# Altium integrated library Battery&Holders.IntLib: 16 symbols
Pins are listed as number, name and electrical type; pins without a type are passive.

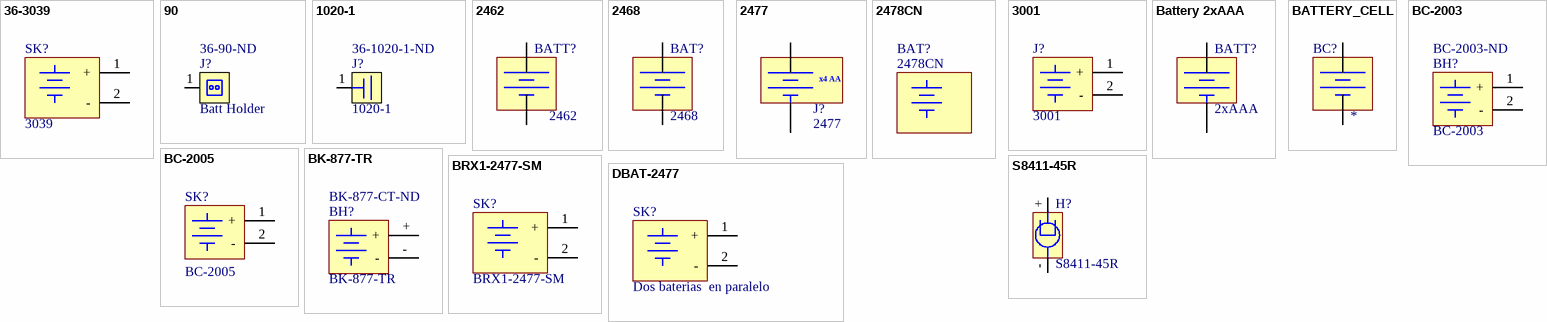
[diagram p0: symbols 36-3039 to S8411-45R]

## 36-3039
designator SK?, comment 3039
BATTERY HOLDER THRU HOLE 2477; Manufacturer: Keystone Electronics; Battery Type, Function: Coin Cell, Retainer; Style: Retainer; Battery Cell Size: Coin, 24.5mm; Number of Cells: 1; Battery Series: 2477; Supplier 1: Digi-Key; Manufacturer Part Number: 3039; RoHS: RoHS Compliant; Category: Battery Products; Stock 1: 26295; Pricing 1: 1=0.69, 10=0.648, 50=0.5184, 100=0.4968, 250=0.4536, 500=0.432, 1000=0.3629, 2500=0.324, 5000=0.3132 (USD); Part Status: Active; Mounting Type: PCB, Through Hole; Termination Style: PC Pin; Height Above Board: 0.336" (8.53mm); Operating Temperature: -; ComponentLink1URL: http://www.keyelco.com/product-pdf.cfm?p=800; ComponentLink1Description: http://www.keyelco.com/product-pdf.cfm?p=800; Value: 3039; Supplier Part Number 1: 36-3039-ND
footprint 36-3039 (BATTERY HOLDER THRU HOLE 2477)
pins: 1 +, 2 -

## 90
designator J?, comment Batt Holder  Supplier Part Number 1: 36-90-ND
Adhesive, Contact, Aerosol, Volume 24 Oz. (710mL), Non-Flammable, Temp +18degc; Manufacturer: Keystone Electronics; Manufacturer Part Number: 90; Supplier 1: Digi-Key; RoHS: Yes; Category: Batteries and Accessories; Stock 1: 3903; Pricing 1: 1=0,51000, 25=0,43320, 100=0,35840, 250=0,33024, 500=0,31032, 1000=0,29040, 2500=0,26385, 5000=0,24560 (USD); Material: Aluminium; Packaging: Bulk; Length: 11.1mm; RoHS Compliant: Yes; Lead Free: Lead Free
footprint KEYSTONE-90 (BATT HOLDER CLIP AAA 1 CELL)
pins: 1

## 1020-1
designator J?  Supplier Part Number 1: 36-1020-1-ND
Contact; Battery; Positive/Negative; Gold Plated Stainless Steel; AAAA A23 A27 AAA N; Manufacturer: Keystone Electronics; Number of Cells: 1; Supplier 1: Digi-Key; Manufacturer Part Number: 1020-1; RoHS: Yes; Stock 1: 21748; Pricing 1: 1=0,51000, 25=0,43080, 100=0,35650, 250=0,32840, 500=0,30862, 1000=0,28881, 2500=0,26240, 5000=0,24425 (USD); Mount: Surface Mount,PCB; Contact Plating: Gold; Color: Gold; Material: Stainless Steel; Min Operating Temperature: -50°C; Max Operating Temperature: 145°C; Termination: SMD/SMT; Package Quantity: 100; Packaging: Bulk; Length: 6.35mm; Width: 6.35mm; Height: 11.02mm; ComponentLink1URL: http://www.mouser.com/ds/2/215/020-1-741369.pdf?src-supplier=Mouser; ComponentLink1Description: http://www.mouser.com/ds/2/215/020-1-741369.pdf?src-supplier=Mouser; ComponentLink2URL: http://www.keyelco.com/product-pdf.cfm?p=14032&src-supplier=Digi-Key; ComponentLink2Description: http://www.keyelco.com/product-pdf.cfm?p=14032&src-supplier=Digi-Key
footprint KEYSTONE-1020-1 (BATT CONT SPRING MULT 1 CELL SMD)
pins: 1

## 2462
designator BATT?
HOLDER BATTERY 2CELL AA PC MNT; Manufacturer: Keystone Electronics; Battery Type, Function: Cylindrical, Holder; Style: Holder (Open); Number of Cells: 2; Supplier 1: Digi-Key; Manufacturer Part Number: 2462; RoHS: RoHS Compliant; Category: Battery Products; Stock 1: 8125; Pricing 1: 1=1.51, 10=0.968, 50=0.8728, 100=0.8349, 250=0.759, 1000=0.6375, 2500=0.5695, 5000=0.5345 (USD); Part Status: Active; Battery Cell Size: AA; Battery Series: -; Mounting Type: PCB, Through Hole; Termination Style: PC Pin; Height Above Board: 0.630" (16.00mm); Operating Temperature: -; ComponentLink1URL: http://www.keyelco.com/product-pdf.cfm?p=1027; ComponentLink1Description: http://www.keyelco.com/product-pdf.cfm?p=1027; Value: 2462; Supplier Part Number 1: 36-2462-ND
footprint 2462 (2 AA Cell Holder, PC P/N 2462)
pins: +, -

## 2468
designator BAT?
HOLDER BATTERY 2CELL AAA PC MNT; Manufacturer: Keystone Electronics; Battery Type, Function: Cylindrical, Holder; Style: Holder (Open); Number of Cells: 2; Supplier 1: Digi-Key; Manufacturer Part Number: 2468; RoHS: RoHS Compliant; Category: Battery Products; Stock 1: 23458; Pricing 1: 1=1.51, 10=0.968, 50=0.8728, 100=0.8349, 250=0.759, 1000=0.6375, 2500=0.5695, 5000=0.5345 (USD); Part Status: Active; Battery Cell Size: AAA; Battery Series: -; Mounting Type: PCB, Through Hole; Termination Style: PC Pin; Height Above Board: 0.512" (13.00mm); Operating Temperature: -; ComponentLink1URL: http://www.keyelco.com/product-pdf.cfm?p=1033; ComponentLink1Description: http://www.keyelco.com/product-pdf.cfm?p=1033; Value: 2468; Supplier Part Number 1: 36-2468-ND
footprint 2468 (HOLDER BATTERY 2CELL AAA PC MNT)
pins: +, -

## 2477
designator J?
BATTERY HOLDER AA 4 CELL PC PIN; Manufacturer: Keystone Electronics; Description: DotStar RGB LED Disk - 240mm diameter; Body Material: Polypropylene; Number of Batteries: 4; Wire/Cable Gauge: 26AWG; Supplier: Digikey; Supplier Part Number: 36-2477-ND; Manufacturer Part Number: 2477; RoHS: Yes; Category: Batteries and Accessories; Stock: 1804; Pricing: 1=1,87, 500=1,58, 1000=1,06282, 2500=0,98695, 5000=0,93317 (USD); Mounting Technology: Through Hole,PCB; Material: Steel,Plastic; Contact Material: Brass; Contact Plating: Nickel; Series: -; Number of Cells: 4; Package Quantity: 1; Termination: PC Pin; Packaging: Bulk; Contact Type: Spring; Mounting Style: HORIZONTAL; Reach SVHC Compliant: No; Lead Free: Lead Free; ComponentLink1URL: https://datasheet.ciiva.com/4/2477-4010.pdf?src-supplier=Digikey; ComponentLink1Description: https://datasheet.ciiva.com/4/2477-4010.pdf?src-supplier=Digikey; ComponentLink2URL: https://datasheet.ciiva.com/1391/1668109-1391556.pdf?src-supplier=Element14; ComponentLink2Description: https://datasheet.ciiva.com/1391/1668109-1391556.pdf?src-supplier=Element14; ComponentLink3URL: https://datasheet.ciiva.com/16295/m60-2p26-16295294.pdf?src-supplier=Future+Electronics; ComponentLink3Description: https://datasheet.ciiva.com/16295/m60-2p26-16295294.pdf?src-supplier=Future+Electronics
footprint KEYSTONE_2477
pins: N -, P +
text: x4 AA

## 2478CN
designator BAT?
BATT HLDR AA 4 CELL LEADS W/CONN; Manufacturer: Keystone Electronics; Supplier 1: Digi-Key; Supplier Part Number 1: 36-2478CN-ND; Manufacturer Part Number: 2478CN; Stock 1: 969; Pricing 1: 1=1.88, 10=1.709, 50=1.5346, 100=1.4648, 250=1.3252, 500=1.2206, 1000=1.0463, 2500=0.9765, 5000=0.9277 (USD)
footprint 2478CN (BATT HLDR AA 4 CELL LEADS W/CONN)

## 3001
designator J?
Battery Holder: THM, 1 Coin Cell, 12mm, PhosBronze/Tin-Nickel | Keystone Electronics 3001; Number of Cells: 1; Supplier: Digikey; Supplier Part Number: 36-3001-ND; Manufacturer: Keystone Electronics; Manufacturer Part Number: 3001; RoHS: Yes; Category: Batteries and Accessories; Stock: 57189; Pricing: 1=0,47, 25=0,4116, 100=0,3267, 250=0,3034, 500=0,28686, 1000=0,27124, 2500=0,25187, 5000=0,23815 (USD); Mounting Technology: Through Hole,PCB; Contact Material: Bronze; Contact Plating: Tin; Material: Bronze; Series: -; Termination: PC Pin; Packaging: Bulk; Package Quantity: 100; Number of Batteries: 1; Diameter: 12mm; Height: 3mm; RoHS Compliant: Yes; Lead Free: Lead Free; Reach SVHC Compliant: No; ComponentLink1URL: https://datasheet.ciiva.com/3/3001-3954.pdf?src-supplier=Digikey; ComponentLink1Description: https://datasheet.ciiva.com/3/3001-3954.pdf?src-supplier=Digikey; ComponentLink2URL: https://datasheet.ciiva.com/1390/1718209-1390245.pdf?src-supplier=Element14; ComponentLink2Description: https://datasheet.ciiva.com/1390/1718209-1390245.pdf?src-supplier=Element14; ComponentLink3URL: https://datasheet.ciiva.com/11714/0900766b8002ef78-11714694.pdf?src-supplier=Rs; ComponentLink3Description: https://datasheet.ciiva.com/11714/0900766b8002ef78-11714694.pdf?src-supplier=Rs; ComponentLink4URL: https://datasheet.ciiva.com/16392/m60-2p7-16392633.pdf?src-supplier=Future+Electronics; ComponentLink4Description: https://datasheet.ciiva.com/16392/m60-2p7-16392633.pdf?src-supplier=Future+Electronics
footprint KEYSTONE_3001 (BATT RETAINER COIN 12MM PC PIN)
pins: 1 +, 2 -

## Battery 2xAAA
designator BATT?, comment 2xAAA
Value: 2xAAA
footprint 2xAAA
footprint 2xAAA - 2
footprint 1AAA
footprint AAA-keystone-1021
footprint AAA-keystone-1021 - X2
pins: 1 +, 3 -

## BATTERY_CELL
designator BC?
Battery Cell; Value: *
footprint BAT_CELL
pins: CELL+ +, CELL- -

## BC-2003
designator BH?  Supplier Part Number 1: BC-2003-ND
Battery Holder Coin 20MM SMD; Manufacturer: Memory Protection Devices; Number of Cells: 1; Supplier 1: Digi-Key; Manufacturer Part Number: BC-2003; RoHS: Yes; Category: Connectors; Stock 1: 23851; Pricing 1: 1=0,57000, 10=0,48400, 50=0,42460, 100=0,40050, 250=0,36900, 500=0,34676, 1000=0,32451, 2500=0,29484, 5000=0,27445 (USD); Mount: Surface Mount,PCB; Case/Package: SMD/SMT; Package Quantity: 1000; Termination: SMD/SMT; ComponentLink1URL: https://datasheet.ciiva.com/29204/bc-2003-datasheet-29204095.pdf?src-supplier=Digi-Key; ComponentLink1Description: https://datasheet.ciiva.com/29204/bc-2003-datasheet-29204095.pdf?src-supplier=Digi-Key
footprint CornellDubilier_BC-2003 (CR2032 BATTERY STRAP SMT)
pins: 1 +, 2 -

## BC-2005
designator SK?
CR2450 BATTERY STRAP SMT; Manufacturer: MPD (Memory Protection Devices); Battery Type, Function: Coin Cell, Retainer; Style: Retainer; Battery Cell Size: Coin, 24.5mm; Number of Cells: 1; Battery Series: 2450; Supplier 1: Digi-Key; Manufacturer Part Number: BC-2005; RoHS: RoHS Compliant; Category: Battery Products; Stock 1: 8830; Pricing 1: 1=0.38, 10=0.35, 100=0.3151, 500=0.2836, 1000=0.2626 (USD); Part Status: Active; Mounting Type: PCB, Surface Mount; Termination Style: SMD (SMT) Tab; Height Above Board: 0.220" (5.59mm); Operating Temperature: -; ComponentLink1URL: http://www.memoryprotectiondevices.com/datasheets/BC-2005-datasheet.pdf; ComponentLink1Description: http://www.memoryprotectiondevices.com/datasheets/BC-2005-datasheet.pdf; Supplier Part Number 1: BC-2005-ND; Value: BC-2005
footprint BC-2005 (CR2450 BATTERY STRAP SMT)
pins: 1 +, 2 -

## BK-877-TR
designator BH?  Supplier Part Number 1: BK-877-CT-ND
CR2450 Coin Cell Retainer SMD; Manufacturer: Memory Protection Devices; Supplier 1: Digi-Key; Manufacturer Part Number: BK-877-TR; RoHS: Yes; Stock 1: 5083; Pricing 1: 1=0,99000, 10=0,83700, 50=0,73360, 100=0,69160 (USD); RoHS Compliant: Yes
footprint MPD_BK-877-TR (BATT RETAIN COIN 24.5MM 1CEL SMD)
pins: +, -

## BRX1-2477-SM
designator SK?
COIN CELL RETAINER 2477 SMT; Manufacturer: MPD (Memory Protection Devices); Battery Type, Function: Coin Cell, Retainer; Battery Cell Size: Coin, 24.5mm; Number of Cells: 1; Battery Series: 2477; Supplier 1: Digi-Key; Manufacturer Part Number: BRX1-2477-SM; RoHS: RoHS Compliant; Category: Battery Products; Stock 1: 2585; Pricing 1: 1=0.88, 10=0.816 (USD); Part Status: Active; Style: Retainer; Mounting Type: PCB, Surface Mount; Termination Style: SMD (SMT) Tab; Height Above Board: 0.343" (8.70mm); Operating Temperature: -; ComponentLink1URL: http://www.memoryprotectiondevices.com/datasheets/BRX1-2477-SM-datasheet.pdf; ComponentLink1Description: http://www.memoryprotectiondevices.com/datasheets/BRX1-2477-SM-datasheet.pdf; Supplier Part Number 1: BRX1-2477-SMCT-ND
footprint BRX1-2477 (CR2477 SURFACE MOUNT BATTERY RETAINER)
pins: 1 +, 2 -

## DBAT-2477
designator SK?, comment Dos baterias  en paralelo
COIN CELL RETAINER 2477 SMT(HOLDER PAR DOS BATERIAS EN PARALELO); Value: *
footprint DBAT-2477 (DOBLE CR2477 PARALELO SURFACE MOUNT BATTERY RETAINER)
pins: 1 +, 2 -

## S8411-45R
designator H?
BATTERY HOLDER 12.0MM COIN SMD; Manufacturer: Harwin Inc.; Battery Type, Function: Coin Cell, Holder; Style: Holder (Open); Battery Cell Size: Coin, 12.0mm; Number of Cells: 1; Battery Series: 1220; Supplier 1: Digi-Key; Manufacturer Part Number: S8411-45R; RoHS: RoHS Compliant; Category: Battery Products; Stock 1: 5238; Pricing 1: 1=1.18, 10=1.064, 50=0.946, 100=0.8278, 250=0.7568 (USD); Part Status: Active; Mounting Type: PCB, Surface Mount; Termination Style: SMD (SMT) Tab; Height Above Board: 0.167" (4.25mm); Operating Temperature: -55°C ~ 105°C; ComponentLink1URL: https://cdn.harwin.com/pdfs/S8411R.pdf; ComponentLink1Description: https://cdn.harwin.com/pdfs/S8411R.pdf; Value: S8411-45R; Supplier Part Number 1: 952-1745-6-ND
footprint S8411-45R
pins: +, -